# EAGLE library part MC14495 (library IsaacAlonso)
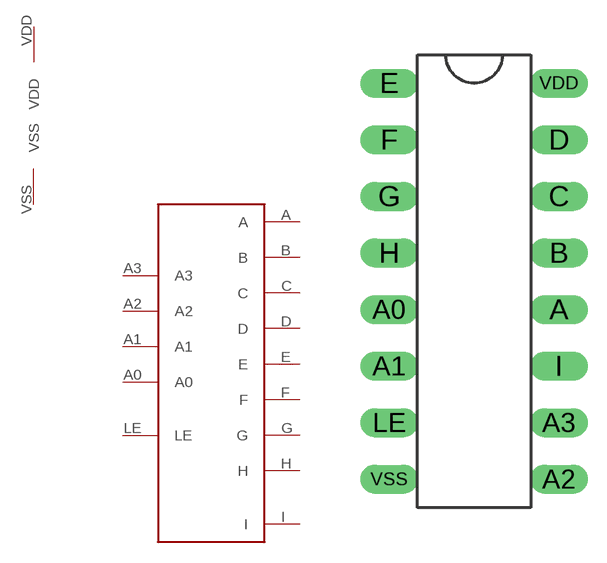
[diagram p2: symbol with the pads of MC14495; footprint MC14495]

Designator prefix -

## MC14495  [MC14495]
A  A
A0  A0
A1  A1
A2  A2
A3  A3
B  B
C  C
D  D
E  E
F  F
G  G
H  H
I  I
LE  LE
VDD  VDD
VSS  VSS

## Footprint MC14495 (pad centres in mm)
drill 0.8 long: A 3.81,-1.27; A0 -3.81,-1.27; A1 -3.81,-3.81; A2 3.81,-8.89; A3 3.81,-6.35; B 3.81,1.27; C 3.81,3.81; D 3.81,6.35; E -3.81,8.89; F -3.81,6.35; G -3.81,3.81; H -3.81,1.27; I 3.81,-3.81; LE -3.81,-6.35; VDD 3.81,8.89; VSS -3.81,-8.89